# Altium footprint library SMD_Connectors.PcbLib: 21 footprints (part 1 of 2)
Each footprint in its own frame and in the unit in brackets; x right, y up, seen from the top. Pads: shape width x height; smd on the part's side, far side on the other; paste and mask are expansions set on the pad; w line width, h text height; cw(c..) or ccw(c..) is an arc to the next point about the centre after c.
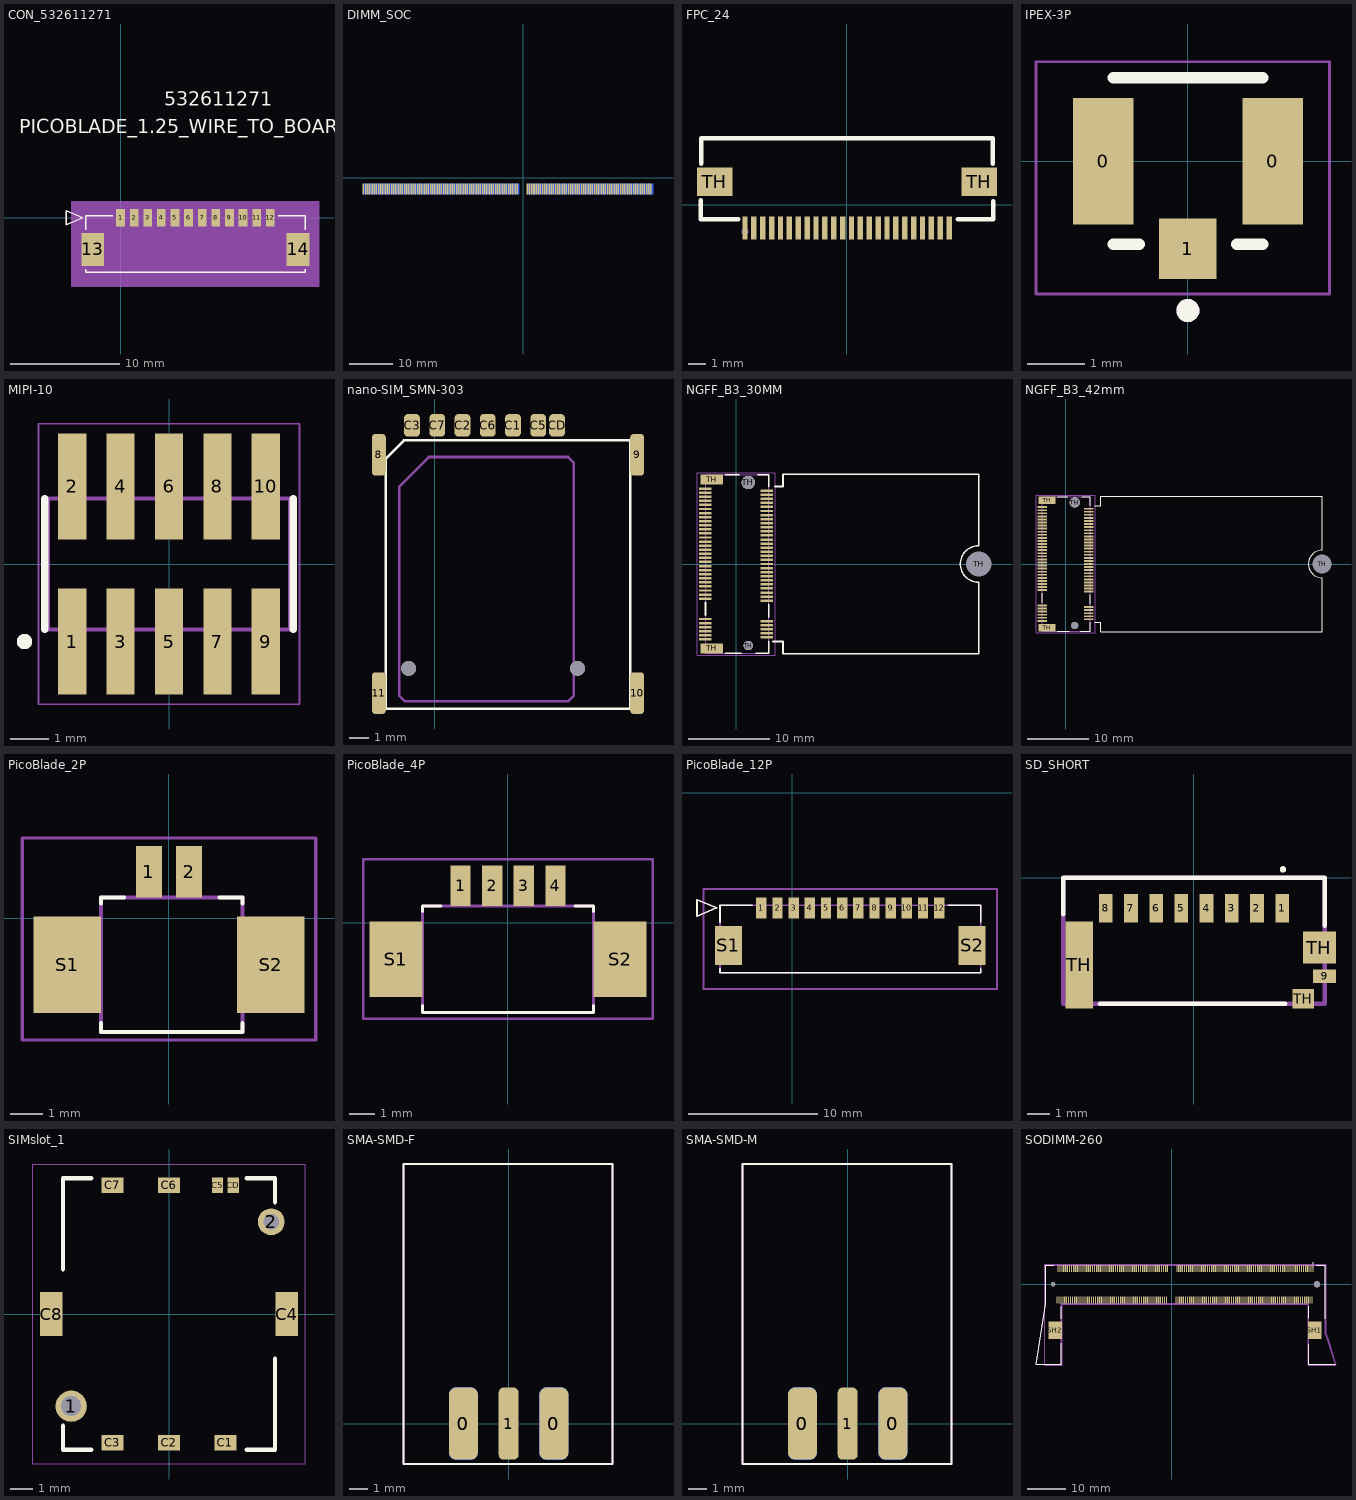
[diagram p0: the footprints below, top view; thin cyan lines are the x and y axes]

## CON_532611271 [mm]
pads (14):
  rect 0.8x1.6 smd paste+0 mask+0.076: 1(0,0) 2(1.25,0) 3(2.5,0) 4(3.75,0) 5(5,0) 6(6.25,0) 7(7.5,0) 8(8.75,0) 9(10,0) 10(11.25,0) 11(12.5,0) 12(13.75,0)
  rect 2.1x3 smd paste+0 mask+0.076: 13(-2.55,-2.9) 14(16.3,-2.9)
Top Overlay:
  lines w0.127: -3.2,-4.72 -3.2,-5 16.95,-5 16.95,-4.72 ; -3.2,-1.08 -3.2,0.2 -0.72,0.2 ; 14.47,0.2 16.95,0.2 16.95,-1.08 ; -4.978,-0.635 -4.978,0.635 -3.454,0 -4.978,-0.635
  text "532611271" at 4.018,10.3 h1.27
  text "PICOBLADE_1.25_WIRE_TO_BOARD_WAFER_ASSY_SMT_-12_CKT" at -9.317,7.76 h1.27
Top Courtyard:
  text "NOTE" at -3.2,-11.23 h1.27
  text "MAXIMUM_PACKAGE_HEIGHT:_3.4_MM" at -3.2,-13.77 h1.27
Mechanical 5:
  region: -3.581,0.581 17.331,0.581 17.331,-5.381 -3.581,-5.381
Mechanical 10:
  text "NOTE" at -3.2,-11.23 h1.27
  text "MAXIMUM_PACKAGE_HEIGHT:_3.4_MM" at -3.2,-13.77 h1.27
Top Assembly (Mech13):
  lines w0.127: -4.978,-0.635 -4.978,0.635 -3.454,0 -4.978,-0.635 ; -3.2,-5 16.95,-5 16.95,0.2 -3.2,0.2 -3.2,-5
  text "532611271" at 4.018,10.3 h1.27
  text "PICOBLADE_1.25_WIRE_TO_BOARD_WAFER_ASSY_SMT_-12_CKT" at -9.317,7.76 h1.27
Top Courtyard (Mech15):
  region: 18.22,1.47 -4.47,1.47 -4.47,-6.27 18.22,-6.27
  lines w0.127: -4.47,-6.27 -4.47,1.47 18.22,1.47 18.22,-6.27 -4.47,-6.27
3D body: height 0.25, standoff 0, extent 0,0 0.254,0.254

## DIMM_SOC [mm]
pads (260):
  rect 0.35x2.5 smd: 1(-36.875,-2.575) 3(-36.375,-2.575) 5(-35.875,-2.575) 7(-35.375,-2.575) 9(-34.875,-2.575) 11(-34.375,-2.575) 13(-33.875,-2.575) 15(-33.375,-2.575) 17(-32.875,-2.575) 19(-32.375,-2.575) 21(-31.875,-2.575) 23(-31.375,-2.575) 25(-30.875,-2.575) 27(-30.375,-2.575) 29(-29.875,-2.575) 31(-29.375,-2.575) 33(-28.875,-2.575) 35(-28.375,-2.575) 37(-27.875,-2.575) 39(-27.375,-2.575) 41(-26.875,-2.575) 43(-26.375,-2.575) 45(-25.875,-2.575) 47(-25.375,-2.575) 49(-24.875,-2.575) 51(-24.375,-2.575) 53(-23.875,-2.575) 55(-23.375,-2.575) 57(-22.875,-2.575) 59(-22.375,-2.575) 61(-21.875,-2.575) 63(-21.375,-2.575) 65(-20.875,-2.575) 67(-20.375,-2.575) 69(-19.875,-2.575) 71(-19.375,-2.575) 73(-18.875,-2.575) 75(-18.375,-2.575) 77(-17.875,-2.575) 79(-17.375,-2.575) 81(-16.875,-2.575) 83(-16.375,-2.575) 85(-15.875,-2.575) 87(-15.375,-2.575) 89(-14.875,-2.575) 91(-14.375,-2.575) 93(-13.875,-2.575) 95(-13.375,-2.575) 97(-12.875,-2.575) 99(-12.375,-2.575) 101(-11.875,-2.575) 103(-11.375,-2.575) 105(-10.875,-2.575) 107(-10.375,-2.575) 109(-9.875,-2.575) 111(-9.375,-2.575) 113(-8.875,-2.575) 115(-8.375,-2.575) 117(-7.875,-2.575) 119(-7.375,-2.575) 121(-6.875,-2.575) 123(-6.375,-2.575) 125(-5.875,-2.575) 127(-5.375,-2.575) 129(-4.875,-2.575) 131(-4.375,-2.575) 133(-3.875,-2.575) 135(-3.375,-2.575) 137(-2.875,-2.575) 139(-2.375,-2.575) 141(-1.875,-2.575) 143(-1.375,-2.575) 145(1,-2.575) 147(1.5,-2.575) 149(2,-2.575) 151(2.5,-2.575) 153(3,-2.575) 155(3.5,-2.575) 157(4,-2.575) 159(4.5,-2.575) 161(5,-2.575) 163(5.5,-2.575) 165(6,-2.575) 167(6.5,-2.575) 169(7,-2.575) 171(7.5,-2.575) 173(8,-2.575) 175(8.5,-2.575) 177(9,-2.575) 179(9.5,-2.575) 181(10,-2.575) 183(10.5,-2.575) 185(11,-2.575) 187(11.5,-2.575) 189(12,-2.575) 191(12.5,-2.575) 193(13,-2.575) 195(13.5,-2.575) 197(14,-2.575) 199(14.5,-2.575) 201(15,-2.575) 203(15.5,-2.575) 205(16,-2.575) 207(16.5,-2.575) 209(17,-2.575) 211(17.5,-2.575) 213(18,-2.575) 215(18.5,-2.575) 217(19,-2.575) 219(19.5,-2.575) 221(20,-2.575) 223(20.5,-2.575) 225(21,-2.575) 227(21.5,-2.575) 229(22,-2.575) 231(22.5,-2.575) 233(23,-2.575) 235(23.5,-2.575) 237(24,-2.575) 239(24.5,-2.575) 241(25,-2.575) 243(25.5,-2.575) 245(26,-2.575) 247(26.5,-2.575) 249(27,-2.575) 251(27.5,-2.575) 253(28,-2.575) 255(28.5,-2.575) 257(29,-2.575) 259(29.5,-2.575)
  rect 0.35x2.5 smd far side: 2(-36.625,-2.575) 4(-36.125,-2.575) 6(-35.625,-2.575) 8(-35.125,-2.575) 10(-34.625,-2.575) 12(-34.125,-2.575) 14(-33.625,-2.575) 16(-33.125,-2.575) 18(-32.625,-2.575) 20(-32.125,-2.575) 22(-31.625,-2.575) 24(-31.125,-2.575) 26(-30.625,-2.575) 28(-30.125,-2.575) 30(-29.625,-2.575) 32(-29.125,-2.575) 34(-28.625,-2.575) 36(-28.125,-2.575) 38(-27.625,-2.575) 40(-27.125,-2.575) 42(-26.625,-2.575) 44(-26.125,-2.575) 46(-25.625,-2.575) 48(-25.125,-2.575) 50(-24.625,-2.575) 52(-24.125,-2.575) 54(-23.625,-2.575) 56(-23.125,-2.575) 58(-22.625,-2.575) 60(-22.125,-2.575) 62(-21.625,-2.575) 64(-21.125,-2.575) 66(-20.625,-2.575) 68(-20.125,-2.575) 70(-19.625,-2.575) 72(-19.125,-2.575) 74(-18.625,-2.575) 76(-18.125,-2.575) 78(-17.625,-2.575) 80(-17.125,-2.575) 82(-16.625,-2.575) 84(-16.125,-2.575) 86(-15.625,-2.575) 88(-15.125,-2.575) 90(-14.625,-2.575) 92(-14.125,-2.575) 94(-13.625,-2.575) 96(-13.125,-2.575) 98(-12.625,-2.575) 100(-12.125,-2.575) 102(-11.625,-2.575) 104(-11.125,-2.575) 106(-10.625,-2.575) 108(-10.125,-2.575) 110(-9.625,-2.575) 112(-9.125,-2.575) 114(-8.625,-2.575) 116(-8.125,-2.575) 118(-7.625,-2.575) 120(-7.125,-2.575) 122(-6.625,-2.575) 124(-6.125,-2.575) 126(-5.625,-2.575) 128(-5.125,-2.575) 130(-4.625,-2.575) 132(-4.125,-2.575) 134(-3.625,-2.575) 136(-3.125,-2.575) 138(-2.625,-2.575) 140(-2.125,-2.575) 142(-1.625,-2.575) 144(-1.125,-2.575) 146(1.375,-2.575) 148(1.875,-2.575) 150(2.375,-2.575) 152(2.875,-2.575) 154(3.375,-2.575) 156(3.875,-2.575) 158(4.375,-2.575) 160(4.875,-2.575) 162(5.375,-2.575) 164(5.875,-2.575) 166(6.375,-2.575) 168(6.875,-2.575) 170(7.375,-2.575) 172(7.875,-2.575) 174(8.375,-2.575) 176(8.875,-2.575) 178(9.375,-2.575) 180(9.875,-2.575) 182(10.375,-2.575) 184(10.875,-2.575) 186(11.375,-2.575) 188(11.875,-2.575) 190(12.375,-2.575) 192(12.875,-2.575) 194(13.375,-2.575) 196(13.875,-2.575) 198(14.375,-2.575) 200(14.875,-2.575) 202(15.375,-2.575) 204(15.875,-2.575) 206(16.375,-2.575) 208(16.875,-2.575) 210(17.375,-2.575) 212(17.875,-2.575) 214(18.375,-2.575) 216(18.875,-2.575) 218(19.375,-2.575) 220(19.875,-2.575) 222(20.375,-2.575) 224(20.875,-2.575) 226(21.375,-2.575) 228(21.875,-2.575) 230(22.375,-2.575) 232(22.875,-2.575) 234(23.375,-2.575) 236(23.875,-2.575) 238(24.375,-2.575) 240(24.875,-2.575) 242(25.375,-2.575) 244(25.875,-2.575) 246(26.375,-2.575) 248(26.875,-2.575) 250(27.375,-2.575) 252(27.875,-2.575) 254(28.375,-2.575) 256(28.875,-2.575) 258(29.375,-2.575) 260(29.875,-2.575)

## FPC_24 [mm]
height 11.1
pads (26):
  rect 0.3x1.3 smd: 1(-5.748,-1.301) 2(-5.248,-1.301) 3(-4.748,-1.301) 4(-4.248,-1.301) 5(-3.748,-1.301) 6(-3.248,-1.301) 7(-2.748,-1.301) 8(-2.248,-1.301) 9(-1.748,-1.301) 10(-1.248,-1.301) 11(-0.748,-1.301) 12(-0.248,-1.301) 13(0.252,-1.301) 14(0.752,-1.301) 15(1.252,-1.301) 16(1.752,-1.301) 17(2.252,-1.301) 18(2.752,-1.301) 19(3.252,-1.301) 20(3.752,-1.301) 21(4.252,-1.301) 22(4.752,-1.301) 23(5.252,-1.301) 24(5.752,-1.301)
  rect 2x1.6 smd: TH(-7.45,1.301) TH(7.45,1.301)
Top Overlay:
  lines w0.254: -8.25,0.27 -8.25,-0.8 -6.129,-0.8 ; -8.199,2.332 -8.199,3.75 8.2,3.75 8.2,2.332 ; 6.25,-0.8 8.25,-0.8 8.25,0.2
Mechanical 1:
  circle w0.2: c-5.75,-1.5 r0.1
3D body "52437-2471.stp": height 2, standoff -0.04, extent -9.3,-1.45 9.3,3.75

## IPEX-3P [mm]
pads (3):
  rect 1.05x2.2 smd: 0(-1.475,0) 0(1.475,0)
  rect 1x1.05 smd: 1(0,-1.525)
Top Overlay:
  circle w0.2: c0,-2.6 r0.1
  lines w0.2: -1.3,-1.45 -0.85,-1.45 ; -1.3,1.45 1.3,1.45 ; 0.85,-1.45 1.3,-1.45
Top Assembly:
  lines w0.05: -2.642,-2.311 -2.642,1.727 2.464,1.727 2.464,-2.311 -2.642,-2.311
Top Assembly (Mech13):
  circle w0.2: c0,-2.6 r0.1

## MIPI-10 [mm]
pads (10):
  rect 0.74x2.79 smd: 1(-2.54,-2.035) 2(-2.54,2.035) 3(-1.27,-2.035) 4(-1.27,2.035) 5(0,-2.035) 6(0,2.035) 7(1.27,-2.035) 8(1.27,2.035) 9(2.54,-2.035) 10(2.54,2.035)
Top Overlay:
  circle w0.2: c-3.79,-2.035 r0.1
  lines w0.2: -3.26,-1.715 -3.26,1.715 ; 3.26,-1.715 3.26,1.715
Top Assembly (Mech13):
  circle w0.2: c-3.79,-2.035 r0.1
  lines w0.1: -3.175,-1.715 3.175,-1.715 3.175,1.715 -3.175,1.715 -3.175,-1.715
Top Courtyard (Mech15):
  lines w0.05: -3.425,-3.68 3.425,-3.68 3.425,3.68 -3.425,3.68 -3.425,-3.68
3D body "FTSH-105-01-L-DV-K.stp": height 6.01, standoff -0.11, extent -3.175,-2.921 3.175,2.921

## nano-SIM_SMN-303 [mm]
height 1.37
pads (19):
  rrect50% 0.7x2.1 smd: 8(-2.821,40.265) 9(10.179,40.265) 10(10.179,28.265) 11(-2.821,28.265)
  rrect50% 0.8x1.14 smd: C1(3.929,41.745) C2(1.389,41.745) C3(-1.151,41.745) C5(5.199,41.745) C6(2.659,41.745) C7(0.119,41.745) CD(6.149,41.745)
  round 0.75 hole 0.75 unplated: ""(-1.321,29.515) ""(7.179,29.515)
  rrect50% 1.2x3.8 on Top Overlay paste+0 mask+0: ""(0,30.3) ""(0,37.2) ""(2.525,30.3) ""(2.525,37.2) ""(5.075,30.3) ""(5.075,37.2)
Top Overlay:
  lines w0.127: -2.471,27.49 -2.471,40.074 -1.555,40.99 9.829,40.99 9.829,27.49 -2.471,27.49
Mechanical 1:
  lines w0.127: -1.8,28.15 -1.5,27.85 6.7,27.85 7,28.15 7,39.85 6.7,40.15 -0.3,40.15 -1.8,38.65 -1.8,28.15
3D body: height 1.37, standoff 0, extent -2.464,27.483 9.836,40.983

## NGFF_B3_30MM [mm]
pads (72):
  rect 1.55x0.3 smd: 1(-3.775,-9.25) 2(3.775,-9) 3(-3.775,-8.75) 4(3.775,-8.5) 5(-3.775,-8.25) 6(3.775,-8) 7(-3.775,-7.75) 8(3.775,-7.5) 9(-3.775,-7.25) 10(3.775,-7) 11(-3.775,-6.75) 20(3.775,-4.5) 21(-3.775,-4.25) 22(3.775,-4) 23(-3.775,-3.75) 24(3.775,-3.5) 25(-3.775,-3.25) 26(3.775,-3) 27(-3.775,-2.75) 28(3.775,-2.5) 29(-3.775,-2.25) 30(3.775,-2) 31(-3.775,-1.75) 32(3.775,-1.5) 33(-3.775,-1.25) 34(3.775,-1) 35(-3.775,-0.75) 36(3.775,-0.5) 37(-3.775,-0.25) 38(3.775,0) 39(-3.775,0.25) 40(3.775,0.5) 41(-3.775,0.75) 42(3.775,1) 43(-3.775,1.25) 44(3.775,1.5) 45(-3.775,1.75) 46(3.775,2) 47(-3.775,2.25) 48(3.775,2.5) 49(-3.775,2.75) 50(3.775,3) 51(-3.775,3.25) 52(3.775,3.5) 53(-3.775,3.75) 54(3.775,4) 55(-3.775,4.25) 56(3.775,4.5) 57(-3.775,4.75) 58(3.775,5) 59(-3.775,5.25) 60(3.775,5.5) 61(-3.775,5.75) 62(3.775,6) 63(-3.775,6.25) 64(3.775,6.5) 65(-3.775,6.75) 66(3.775,7) 67(-3.775,7.25) 68(3.775,7.5) 69(-3.775,7.75) 70(3.775,8) 71(-3.775,8.25) 72(3.775,8.5) 73(-3.775,8.75) 74(3.775,9) 75(-3.775,9.25)
  rect 2.75x1.2 smd: TH(-3,-10.35) TH(-3,10.35)
  round 1.15 hole 1.15 unplated: TH(1.5,-10)
  round 1.65 hole 1.65 unplated: TH(1.5,10)
  round 1.524 hole 3.1: TH(29.75,0)
Top Overlay:
  lines w0.2: -3.75,-6.28 -3.75,-4.72 ; -1.305,-10.95 0.605,-10.95 ; -1.305,10.95 0.355,10.95 ; 2.395,-10.95 4,-10.95 4,-9.47 ; 2.645,10.95 4,10.95 4,9.47 ; 4,-6.53 4,-4.97 ; 4.5,-9.5 5.75,-9.5 5.75,-11 29.75,-11 29.75,-2.25 cw(c29.75,0) 29.75,2.25 29.75,11 5.75,11 5.75,9.5 4.75,9.5
Top Assembly (Mech13):
  lines w0.127: -3.75,-10.95 4,-10.95 4,10.95 -3.75,10.95 -3.75,-10.95
Top Courtyard (Mech15):
  lines w0.05: -4.8,-11.2 4.8,-11.2 4.8,11.2 -4.8,11.2 -4.8,-11.2
3D body "c-2199230-3-b3-3d.stp": height 4.09, standoff -0.62, extent -4.35,-10.95 4.35,10.95
3D body "NGFF_B_Board_3omm.step": height 3.2, standoff 2.79, extent -0.25,-11 29.75,11

## NGFF_B3_42mm [mm]
pads (72):
  rect 1.55x0.3 smd: 1(-3.775,-9.25) 2(3.775,-9) 3(-3.775,-8.75) 4(3.775,-8.5) 5(-3.775,-8.25) 6(3.775,-8) 7(-3.775,-7.75) 8(3.775,-7.5) 9(-3.775,-7.25) 10(3.775,-7) 11(-3.775,-6.75) 20(3.775,-4.5) 21(-3.775,-4.25) 22(3.775,-4) 23(-3.775,-3.75) 24(3.775,-3.5) 25(-3.775,-3.25) 26(3.775,-3) 27(-3.775,-2.75) 28(3.775,-2.5) 29(-3.775,-2.25) 30(3.775,-2) 31(-3.775,-1.75) 32(3.775,-1.5) 33(-3.775,-1.25) 34(3.775,-1) 35(-3.775,-0.75) 36(3.775,-0.5) 37(-3.775,-0.25) 38(3.775,0) 39(-3.775,0.25) 40(3.775,0.5) 41(-3.775,0.75) 42(3.775,1) 43(-3.775,1.25) 44(3.775,1.5) 45(-3.775,1.75) 46(3.775,2) 47(-3.775,2.25) 48(3.775,2.5) 49(-3.775,2.75) 50(3.775,3) 51(-3.775,3.25) 52(3.775,3.5) 53(-3.775,3.75) 54(3.775,4) 55(-3.775,4.25) 56(3.775,4.5) 57(-3.775,4.75) 58(3.775,5) 59(-3.775,5.25) 60(3.775,5.5) 61(-3.775,5.75) 62(3.775,6) 63(-3.775,6.25) 64(3.775,6.5) 65(-3.775,6.75) 66(3.775,7) 67(-3.775,7.25) 68(3.775,7.5) 69(-3.775,7.75) 70(3.775,8) 71(-3.775,8.25) 72(3.775,8.5) 73(-3.775,8.75) 74(3.775,9) 75(-3.775,9.25)
  rect 2.75x1.2 smd: TH(-3,-10.35) TH(-3,10.35)
  round 1.15 hole 1.15 unplated: TH(1.5,-10)
  round 1.65 hole 1.65 unplated: TH(1.5,10)
  round 1.524 hole 3.1: TH(41.75,0)
Top Overlay:
  lines w0.2: -3.75,-6.28 -3.75,-4.72 ; -1.305,-10.95 0.605,-10.95 ; -1.305,10.95 0.355,10.95 ; 2.395,-10.95 4,-10.95 4,-9.47 ; 2.645,10.95 4,10.95 4,9.47 ; 4,-6.53 4,-4.97 ; 4.75,-9.5 5.75,-9.5 5.75,-11 41.75,-11 41.75,-2.25 cw(c41.75,0) 41.75,2.25 41.75,11 5.75,11 5.75,9.5 4.75,9.5
Top Assembly (Mech13):
  lines w0.127: -3.75,-10.95 -3.75,10.95 4,10.95 4,-10.95 -3.75,-10.95
Top Courtyard (Mech15):
  lines w0.05: -4.8,-11.2 -4.8,11.2 4.8,11.2 4.8,-11.2 -4.8,-11.2
3D body "NGFF_B_Board.step": height 3, standoff 2.59, extent -0.25,-11 41.75,11
3D body "c-2199230-3-b3-3d.stp": height 4.09, standoff -0.62, extent -4.35,-10.95 4.35,10.95

## PicoBlade_2P [mm]
pads (4):
  rect 0.8x1.6 smd: 1(-0.625,1.45) 2(0.625,1.45)
  rect 2.1x3 smd: S1(-3.175,-1.45) S2(3.175,-1.45)
Top Overlay:
  lines w0.127: -2.125,-3.275 -2.125,-3.55 2.286,-3.55 2.286,-3.275 ; -2.125,0.45 -2.125,0.65 -1.4,0.65 ; 1.569,0.65 2.294,0.65 2.294,0.45
Top Assembly (Mech13):
  lines w0.127: -2.125,-3.55 -2.125,0.65 2.286,0.65 2.286,-3.55 -2.125,-3.55
Top Courtyard (Mech15):
  lines w0.1: -4.572,-3.8 4.572,-3.8 4.572,2.5 -4.572,2.5 -4.572,-3.8
3D body "533980271.stp": height 4.77, standoff 0.08, extent -3.764,-2.496 3.886,1.704

## PicoBlade_4P [mm]
pads (6):
  rect 0.8x1.6 smd: 1(-1.875,1.45) 2(-0.625,1.45) 3(0.625,1.45) 4(1.875,1.45)
  rect 2.1x3 smd: S1(-4.425,-1.45) S2(4.425,-1.45)
Top Overlay:
  lines w0.127: -3.375,-3.275 -3.375,-3.55 3.375,-3.55 3.375,-3.275 ; -3.375,0.45 -3.375,0.65 -2.65,0.65 ; 2.65,0.65 3.375,0.65 3.375,0.45
Top Assembly (Mech13):
  lines w0.127: -3.375,-3.55 -3.375,0.65 3.375,0.65 3.375,-3.55 -3.375,-3.55
Top Courtyard (Mech15):
  lines w0.1: -5.725,-3.8 5.725,-3.8 5.725,2.5 -5.725,2.5 -5.725,-3.8
3D body "53398-0471.stp": height 4.77, standoff 0.03, extent -5.045,-2.461 5.105,1.739

## PicoBlade_12P [mm]
pads (14):
  rect 0.8x1.6 smd paste+0 mask+0.076: 1(-2.373,-8.917) 2(-1.123,-8.917) 3(0.127,-8.917) 4(1.377,-8.917) 5(2.627,-8.917) 6(3.877,-8.917) 7(5.127,-8.917) 8(6.377,-8.917) 9(7.627,-8.917) 10(8.877,-8.917) 11(10.127,-8.917) 12(11.377,-8.917)
  rect 2.1x3 smd paste+0 mask+0.076: S1(-4.923,-11.817) S2(13.927,-11.817)
Top Overlay:
  lines w0.127: -5.573,-13.637 -5.573,-13.917 14.577,-13.917 14.577,-13.637 ; -5.573,-9.997 -5.573,-8.717 -3.093,-8.717 ; 12.097,-8.717 14.577,-8.717 14.577,-9.997 ; -7.351,-9.552 -5.827,-8.917 -7.351,-8.282 -7.351,-9.552
Top Assembly (Mech13):
  lines w0.127: -7.351,-9.552 -5.827,-8.917 -7.351,-8.282 -7.351,-9.552 ; -5.573,-13.917 -5.573,-8.717 14.577,-8.717 14.577,-13.917 -5.573,-13.917
Top Courtyard (Mech15):
  lines w0.127: -6.843,-15.187 15.847,-15.187 15.847,-7.447 -6.843,-7.447 -6.843,-15.187
3D body: height 0.25, standoff 0, extent -2.373,-8.917 -2.119,-8.663
3D body "532611271.stp": height 3.4, standoff 0, extent -5.503,-13.675 14.647,-8.475

## SD_SHORT [mm]
pads (12):
  rect 0.6x1.25 smd: 1(3.85,-1.325) 2(2.75,-1.325) 3(1.65,-1.325) 4(0.55,-1.325) 5(-0.55,-1.325) 6(-1.65,-1.325) 7(-2.75,-1.325) 8(-3.85,-1.325)
  rect 1x0.6 smd: 9(5.7,-4.3)
  rect 1.2x3.79 smd: TH(-5,-3.805)
  rect 0.95x0.85 smd: TH(4.775,-5.275)
  rect 1.45x1.4 smd: TH(5.475,-3.05)
Top Overlay:
  circle w0.2: c3.886,0.364 r0.041
  lines w0.2: -5.7,-1.599 -5.7,0 5.7,0 5.7,-2.098 ; -4.1,-5.5 3.978,-5.5
Top Assembly:
  lines w0.2: -5.7,-5.5 -5.7,0 5.7,0 5.7,-5.5 -5.7,-5.5
3D body "47309-2651.stp": height 2.7, standoff 0.05, extent -5.4,-5.475 6,0.025

## SIMslot_1 [mm]
pads (11):
  round 1.408 hole 0.9: 1(-4.4,-4.15)
  round 1.208 hole 0.7: 2(4.6,4.15)
  rect 1x0.7 smd: C1(2.54,-5.795) C2(0,-5.795) C3(-2.54,-5.795) C6(0,5.795) C7(-2.54,5.795)
  rect 1x2 smd: C4(5.3,0) C8(-5.3,0)
  rect 0.5x0.7 smd: C5(2.19,5.795) CD(2.89,5.795)
Top Overlay:
  lines w0.2: -4.77,-5.02 -4.77,-6.1 -3.5,-6.1 ; -4.77,2.02 -4.77,6.1 -3.5,6.1 ; 3.5,-6.1 4.77,-6.1 4.77,-2.02 ; 3.5,6.1 4.77,6.1 4.77,5.02
Top Assembly:
  lines w0.05: -6.125,-6.75 -6.125,6.75 6.125,6.75 6.125,-6.75 -6.125,-6.75

## SMA-SMD-F [mm]
pads (5):
  rrect50% 1.6x4 smd: 0(-2.5,0) 0(2.5,0)
  rrect50% 1.6x4 smd far side: 0(-2.5,0) 0(2.5,0)
  rrect50% 1.1x4 smd: 1(0,0)
Top Overlay:
  lines w0.127: -5.817,-2.235 -5.817,14.351 5.74,14.351 5.74,-2.235 -5.817,-2.235
Bottom Overlay:
  lines w0.127: -5.817,-2.235 5.74,-2.235 5.74,14.351 -5.817,14.351 -5.817,-2.235
Top Assembly:
  lines w0.127: -5.817,-2.235 5.74,-2.235 5.74,14.351 -5.817,14.351 -5.817,-2.235
Top Courtyard:
  lines w0.127: -5.817,-2.235 5.74,-2.235 5.74,14.351 -5.817,14.351 -5.817,-2.235

## SMA-SMD-M [mm]
pads (5):
  rrect50% 1.6x4 smd far side: 0(-2.5,0) 0(2.5,0)
  rrect50% 1.6x4 smd: 0(-2.5,0) 0(2.5,0)
  rrect50% 1.1x4 smd: 1(0,0)
Top Overlay:
  lines w0.127: -5.817,-2.235 -5.817,14.351 5.74,14.351 5.74,-2.235 -5.817,-2.235
Bottom Overlay:
  lines w0.127: -5.817,-2.235 5.74,-2.235 5.74,14.351 -5.817,14.351 -5.817,-2.235
Top Assembly:
  lines w0.127: -5.817,-2.235 5.74,-2.235 5.74,14.351 -5.817,14.351 -5.817,-2.235
Top Courtyard:
  lines w0.127: -5.817,-2.235 5.74,-2.235 5.74,14.351 -5.817,14.351 -5.817,-2.235

## SODIMM-260 [mm]
pads (264):
  rect 0.3x1.75 smd: 1(36.875,4.1) 2(36.625,-4.1) 3(36.375,4.1) 4(36.125,-4.1) 5(35.875,4.1) 6(35.625,-4.1) 7(35.375,4.1) 8(35.125,-4.1) 9(34.875,4.1) 10(34.625,-4.1) 11(34.375,4.1) 12(34.125,-4.1) 13(33.875,4.1) 14(33.625,-4.1) 15(33.375,4.1) 16(33.125,-4.1) 17(32.875,4.1) 18(32.625,-4.1) 19(32.375,4.1) 20(32.125,-4.1) 21(31.875,4.1) 22(31.625,-4.1) 23(31.375,4.1) 24(31.125,-4.1) 25(30.875,4.1) 26(30.625,-4.1) 27(30.375,4.1) 28(30.125,-4.1) 29(29.875,4.1) 30(29.625,-4.1) 31(29.375,4.1) 32(29.125,-4.1) 33(28.875,4.1) 34(28.625,-4.1) 35(28.375,4.1) 36(28.125,-4.1) 37(27.875,4.1) 38(27.625,-4.1) 39(27.375,4.1) 40(27.125,-4.1) 41(26.875,4.1) 42(26.625,-4.1) 43(26.375,4.1) 44(26.125,-4.1) 45(25.875,4.1) 46(25.625,-4.1) 47(25.375,4.1) 48(25.125,-4.1) 49(24.875,4.1) 50(24.625,-4.1) 51(24.375,4.1) 52(24.125,-4.1) 53(23.875,4.1) 54(23.625,-4.1) 55(23.375,4.1) 56(23.125,-4.1) 57(22.875,4.1) 58(22.625,-4.1) 59(22.375,4.1) 60(22.125,-4.1) 61(21.875,4.1) 62(21.625,-4.1) 63(21.375,4.1) 64(21.125,-4.1) 65(20.875,4.1) 66(20.625,-4.1) 67(20.375,4.1) 68(20.125,-4.1) 69(19.875,4.1) 70(19.625,-4.1) 71(19.375,4.1) 72(19.125,-4.1) 73(18.875,4.1) 74(18.625,-4.1) 75(18.375,4.1) 76(18.125,-4.1) 77(17.875,4.1) 78(17.625,-4.1) 79(17.375,4.1) 80(17.125,-4.1) 81(16.875,4.1) 82(16.625,-4.1) 83(16.375,4.1) 84(16.125,-4.1) 85(15.875,4.1) 86(15.625,-4.1) 87(15.375,4.1) 88(15.125,-4.1) 89(14.875,4.1) 90(14.625,-4.1) 91(14.375,4.1) 92(14.125,-4.1) 93(13.875,4.1) 94(13.625,-4.1) 95(13.375,4.1) 96(13.125,-4.1) 97(12.875,4.1) 98(12.625,-4.1) 99(12.375,4.1) 100(12.125,-4.1) 101(11.875,4.1) 102(11.625,-4.1) 103(11.375,4.1) 104(11.125,-4.1) 105(10.875,4.1) 106(10.625,-4.1) 107(10.375,4.1) 108(10.125,-4.1) 109(9.875,4.1) 110(9.625,-4.1) 111(9.375,4.1) 112(9.125,-4.1) 113(8.875,4.1) 114(8.625,-4.1) 115(8.375,4.1) 116(8.125,-4.1) 117(7.875,4.1) 118(7.625,-4.1) 119(7.375,4.1) 120(7.125,-4.1) 121(6.875,4.1) 122(6.625,-4.1) 123(6.375,4.1) 124(6.125,-4.1) 125(5.875,4.1) 126(5.625,-4.1) 127(5.375,4.1) 128(5.125,-4.1) 129(4.875,4.1) 130(4.625,-4.1) 131(4.375,4.1) 132(4.125,-4.1) 133(3.875,4.1) 134(3.625,-4.1) 135(3.375,4.1) 136(3.125,-4.1) 137(2.875,4.1) 138(2.625,-4.1) 139(2.375,4.1) 140(2.125,-4.1) 141(1.875,4.1) 142(1.625,-4.1) 143(1.375,4.1) 144(1.125,-4.1) 145(-1.125,4.1) 146(-1.375,-4.1) 147(-1.625,4.1) 148(-1.875,-4.1) 149(-2.125,4.1) 150(-2.375,-4.1) 151(-2.625,4.1) 152(-2.875,-4.1) 153(-3.125,4.1) 154(-3.375,-4.1) 155(-3.625,4.1) 156(-3.875,-4.1) 157(-4.125,4.1) 158(-4.375,-4.1) 159(-4.625,4.1) 160(-4.875,-4.1) 161(-5.125,4.1) 162(-5.375,-4.1) 163(-5.625,4.1) 164(-5.875,-4.1) 165(-6.125,4.1) 166(-6.375,-4.1) 167(-6.625,4.1) 168(-6.875,-4.1) 169(-7.125,4.1) 170(-7.375,-4.1) 171(-7.625,4.1) 172(-7.875,-4.1) 173(-8.125,4.1) 174(-8.375,-4.1) 175(-8.625,4.1) 176(-8.875,-4.1) 177(-9.125,4.1) 178(-9.375,-4.1) 179(-9.625,4.1) 180(-9.875,-4.1) 181(-10.125,4.1) 182(-10.375,-4.1) 183(-10.625,4.1) 184(-10.875,-4.1) 185(-11.125,4.1) 186(-11.375,-4.1) 187(-11.625,4.1) 188(-11.875,-4.1) 189(-12.125,4.1) 190(-12.375,-4.1) 191(-12.625,4.1) 192(-12.875,-4.1) 193(-13.125,4.1) 194(-13.375,-4.1) 195(-13.625,4.1) 196(-13.875,-4.1) 197(-14.125,4.1) 198(-14.375,-4.1) 199(-14.625,4.1) 200(-14.875,-4.1) 201(-15.125,4.1) 202(-15.375,-4.1) 203(-15.625,4.1) 204(-15.875,-4.1) 205(-16.125,4.1) 206(-16.375,-4.1) 207(-16.625,4.1) 208(-16.875,-4.1) 209(-17.125,4.1) 210(-17.375,-4.1) 211(-17.625,4.1) 212(-17.875,-4.1) 213(-18.125,4.1) 214(-18.375,-4.1) 215(-18.625,4.1) 216(-18.875,-4.1) 217(-19.125,4.1) 218(-19.375,-4.1) 219(-19.625,4.1) 220(-19.875,-4.1) 221(-20.125,4.1) 222(-20.375,-4.1) 223(-20.625,4.1) 224(-20.875,-4.1) 225(-21.125,4.1) 226(-21.375,-4.1) 227(-21.625,4.1) 228(-21.875,-4.1) 229(-22.125,4.1) 230(-22.375,-4.1) 231(-22.625,4.1) 232(-22.875,-4.1) 233(-23.125,4.1) 234(-23.375,-4.1) 235(-23.625,4.1) 236(-23.875,-4.1) 237(-24.125,4.1) 238(-24.375,-4.1) 239(-24.625,4.1) 240(-24.875,-4.1) 241(-25.125,4.1) 242(-25.375,-4.1) 243(-25.625,4.1) 244(-25.875,-4.1) 245(-26.125,4.1) 246(-26.375,-4.1) 247(-26.625,4.1) 248(-26.875,-4.1) 249(-27.125,4.1) 250(-27.375,-4.1) 251(-27.625,4.1) 252(-27.875,-4.1) 253(-28.125,4.1) 254(-28.375,-4.1) 255(-28.625,4.1) 256(-28.875,-4.1) 257(-29.125,4.1) 258(-29.375,-4.1) 259(-29.625,4.1) 260(-29.875,-4.1)
  rect 3.5x4.6 smd: SH1(37.3,-12) SH2(-30.3,-12)
  round 1.1 hole 1.1 unplated: ""(-30.9,0)
  round 1.6 hole 1.6 unplated: ""(37.9,0)
Top Overlay:
  circle w0.2: c36.875,5.5 r0.1
  lines w0.127: -30.725,5 -32.875,5 -32.875,-5 -35.375,-20.85 -28.825,-20.85 -28.825,-15.402 ; -28.825,-9 -28.825,-5.85 ; 35.825,-15.6 35.825,-20.85 42.625,-20.85 ; 35.825,-8.85 35.825,-5.7 ; 37.725,5 40.125,5 40.125,-9.031
Top Assembly (Mech13):
  circle w0.1: c36.875,4.5 r0.05
  lines w0.127: -35.375,-20.85 -32.875,-5.08 -32.875,4.855 cw(c-32.802,4.928) -32.875,5 40.125,5 40.125,-13.031 42.625,-20.85 35.825,-20.85 35.825,-5 -28.825,-5 -28.825,-20.85 -35.375,-20.85
Top Courtyard (Mech15):
  lines w0.05: -33.125,-21.1 -28.575,-21.1 -28.575,-5.25 35.575,-5.25 35.575,-21.1 42.875,-21.1 40.875,-14.531 40.375,-13.081 40.375,5.25 -33.125,5.25 -33.125,-21.1
3D body "c-2309407-1-1-3d.stp": height 4.15, standoff -0.35, extent -33,-20.85 40,5